# Altium footprint library PCB - DIODES - DIOAD1405W86L465D235.PCBLIB: 1 footprints
Each footprint in its own frame and in the unit in brackets; x right, y up, seen from the top. Pads: shape width x height; smd on the part's side, far side on the other; paste and mask are expansions set on the pad; w line width, h text height; cw(c..) or ccw(c..) is an arc to the next point about the centre after c.
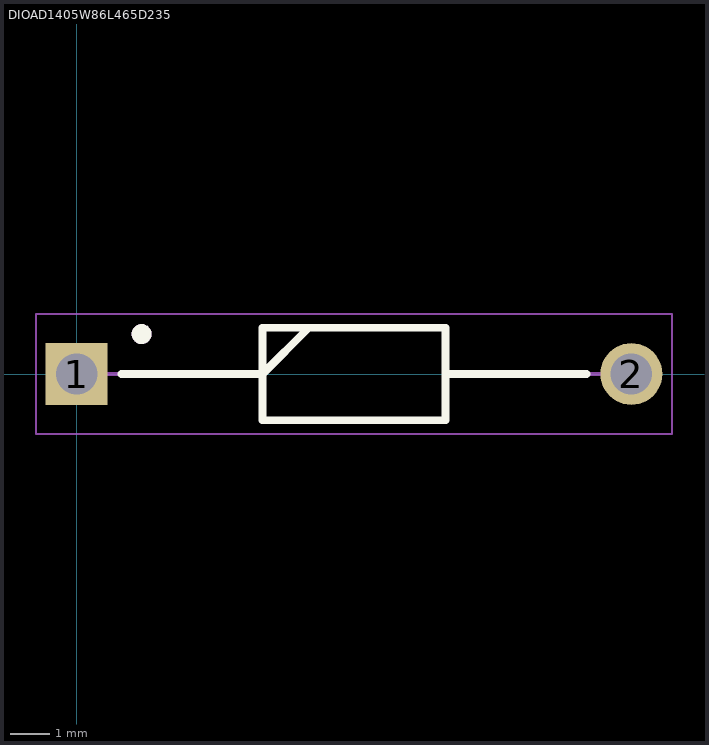
[diagram p0: the footprint, top view; thin cyan lines are the x and y axes]

## DIOAD1405W86L465D235 [mm]
pads (2):
  rect 1.575x1.575 hole 1.05: 1(0,0)
  round 1.575 hole 1.05: 2(14.1,0)
Top Overlay:
  circle w0.254: c1.651,1.016 r0.127
  lines w0.2: 1.138,0 4.725,0 5.9,1.175 ; 9.375,0 12.962,0 ; 4.725,-1.175 4.725,1.175 9.375,1.175 9.375,-1.175 4.725,-1.175
Top Assembly:
  circle w0.254: c1.651,1.016 r0.127
  lines w0.1: 0,0 4.725,0 5.9,1.175 ; 9.375,0 14.1,0 ; 4.725,-1.175 9.375,-1.175 9.375,1.175 4.725,1.175 4.725,-1.175
Top Courtyard:
  lines w0.05: -1.038,-1.525 15.137,-1.525 15.137,1.525 -1.038,1.525 -1.038,-1.525
Top Designator:
  text ".Designator" at -0.889,4.191 h1
Top Value (Mech13):
  text ".Comment" at -0.889,3.048 h1
3D body "RGP02-20E-E3_54.stp": height 2.69, standoff -2.7, extent -0.427,-1.347 14.48,1.347